# Altium integrated library Analog Devices RF IF Amplifiers.IntLib: 48 symbols (part 3 of 3)
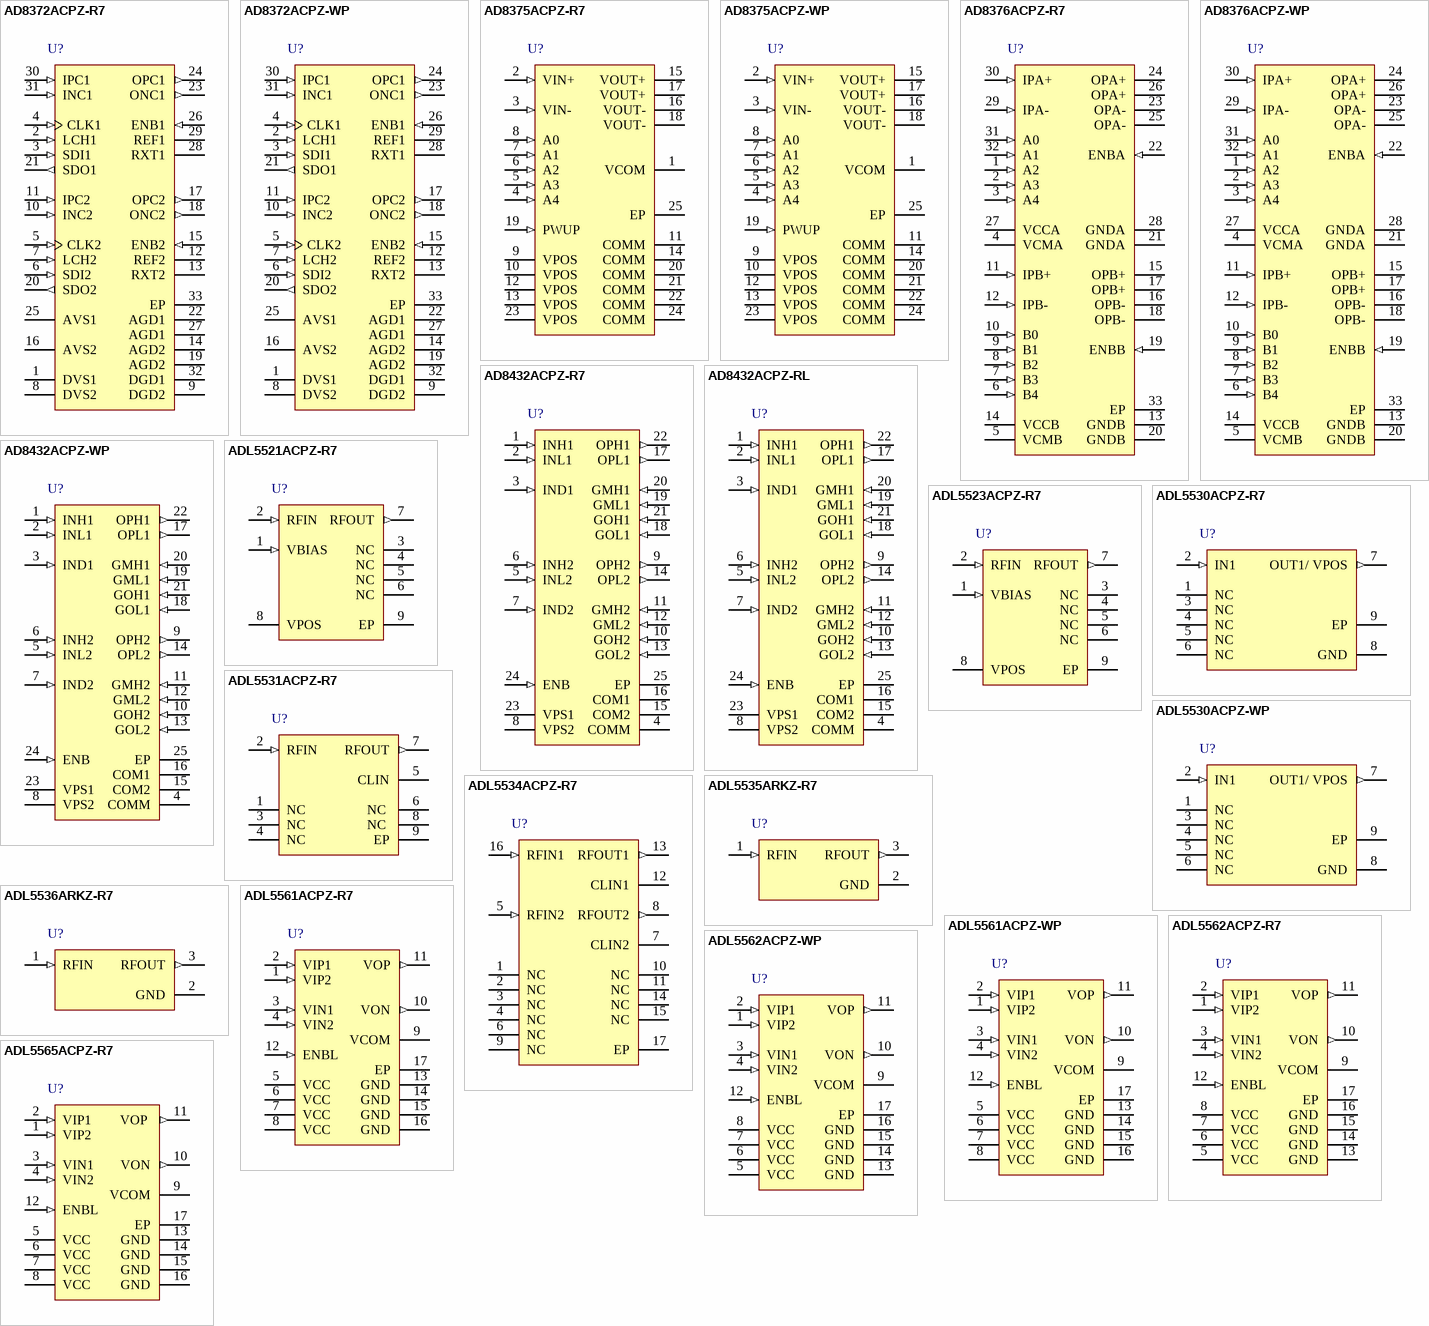
[diagram p3: symbols AD8372ACPZ-R7 to ADL5565ACPZ-R7]

## ADL5535ARKZ-R7
designator U?
20 MHz to 1.0 GHz IF Gain Block, 5.5V, RK-3, 1000 Reel, Pb-Free; Frequency Range: 20 to 1000; Gain: 16.1dB; 1 dB Comp Point: 18.9dBm; Output IP3: 45.5dBm; Noise Figure: 3.2dB; Min Pos Supply: 4.5V; Supply Current: 97mA; DatasheetVersion: Rev. 0; PackageVersion: 121808-B; PackageReference: RK-3; PackageDescription: 3-Lead Small Outline Transistor Package [SOT-89]; Max Pos Supply: 5.5V; Code_JEDEC: TO-243; ComponentLink1Description: Manufacturer URL; ComponentLink1URL: www.analog.com; ComponentLink2Description: Datasheet; ComponentLink2URL: http://www.analog.com/static/imported-files/data_sheets/ADL5535.pdf; ComponentLink3Description: Package Specification; ComponentLink3URL: http://www.analog.com/static/imported-files/packages/PKG_PDF/SOT-89(RK)/RK_3.pdf
footprint ADI-RK-3_N (SOT89, 3-Leads, Body 4.5x2.5 mm, Pitch 1.5mm, Lead Span 4.1mm, IPC Medium Density)
footprint ADI-RK-3_L (SOT89, 3-Leads, Body 4.5x2.5 mm, Pitch 1.5mm, Lead Span 4.1mm, IPC High Density)
footprint ADI-RK-3_M (SOT89, 3-Leads, Body 4.5x2.5 mm, Pitch 1.5mm, Lead Span 4.1mm, IPC Low Density)
pins: 1 RFIN (in) "RF Input. This pin requires a dc blocking capacitor.", 2 GND (power) "Ground. Connect this pin to a low impedance ground plane.", 3 RFOUT (out) "RF Output and Supply Voltage. A dc bias is provided to this pin through an inductor that is connected to the external power supply. The RF path requires a dc blocking capacitor."

## ADL5536ARKZ-R7
designator U?
20 MHz to 1.0 GHz IF Gain Block, 5.5V, RK-3, 1000 Reel, Pb-Free; Frequency Range: 20 to 1000; Gain: 19.4dB; 1 dB Comp Point: 19.7dBm; Output IP3: 49dBm; Noise Figure: 2.7dB; Min Pos Supply: 4.5V; Supply Current: 105mA; DatasheetVersion: Rev. 0; PackageVersion: 121808-B; PackageReference: RK-3; PackageDescription: 3-Lead Small Outline Transistor Package [SOT-89]; Max Pos Supply: 5.5V; Code_JEDEC: TO-243; ComponentLink1Description: Manufacturer URL; ComponentLink1URL: www.analog.com; ComponentLink2Description: Datasheet; ComponentLink2URL: http://www.analog.com/static/imported-files/data_sheets/ADL5536.pdf; ComponentLink3Description: Package Specification; ComponentLink3URL: http://www.analog.com/static/imported-files/packages/PKG_PDF/SOT-89(RK)/RK_3.pdf
footprint ADI-RK-3_N (SOT89, 3-Leads, Body 4.5x2.5 mm, Pitch 1.5mm, Lead Span 4.1mm, IPC Medium Density)
footprint ADI-RK-3_L (SOT89, 3-Leads, Body 4.5x2.5 mm, Pitch 1.5mm, Lead Span 4.1mm, IPC High Density)
footprint ADI-RK-3_M (SOT89, 3-Leads, Body 4.5x2.5 mm, Pitch 1.5mm, Lead Span 4.1mm, IPC Low Density)
pins: 1 RFIN (in) "RF Input. This pin requires a dc blocking capacitor.", 2 GND (power) "Ground. Connect this pin to a low impedance ground plane.", 3 RFOUT (out) "RF Output and Supply Voltage. A dc bias is provided to this pin through an inductor that is connected to the external power supply. The RF path requires a dc blocking capacitor."

## ADL5561ACPZ-R7
designator U?
2.9 GHz Ultralow Distortion RF/IF Differential Amplifier, 15.5dB, 40mA, CP-16-2, Pb-Free, 1500 Reel; -3 dB BW: 2.9GHz; Distortion (2nd): -96dBc; Distortion (3rd): -87dBc; Spectral Noise: 2.1(nV/rtHz); DatasheetVersion: Rev. C; PackageVersion: 2005; PackageReference: CP-16-2; PackageDescription: 16-Lead Lead Frame Chip Scale Package [LFCSP_VQ]; Gain: 15.5dB; Code_JEDEC: MO-220-VEED-2; ComponentLink1Description: Manufacturer URL; ComponentLink1URL: www.analog.com; ComponentLink2Description: Datasheet; ComponentLink2URL: http://www.analog.com/static/imported-files/data_sheets/ADL5561.pdf; ComponentLink3Description: Package Specification; ComponentLink3URL: http://www.analog.com/static/imported-files/packages/PKG_PDF/LFCSP(CP)/CP_16_2.pdf
footprint ADI-CP-16-2_N (QFN, 16-Leads, Body 3x3mm, Pitch 0.5mm, Thermal Pad 1.3x1.3mm, IPC Medium Density)
footprint ADI-CP-16-2_L (QFN, 16-Leads, Body 3x3mm, Pitch 0.5mm, Thermal Pad 1.3x1.3mm, IPC High Density)
footprint ADI-CP-16-2_M (QFN, 16-Leads, Body 3x3mm, Pitch 0.5mm, Thermal Pad 1.3x1.3mm, IPC Low Density)
pins: 1 VIP2 (in) "Balanced Differential Input. Biased to VCOM, typically ac-coupled. Input for AV = 12 dB gain, strapped to  VIP1 for Av = 15.5 dB.", 2 VIP1 (in) "Balanced Differential Input. Biased to VCOM, typically ac-coupled. Input for AV = 6 dB gain, strapped to  VIP2 for Av = 15.5 dB", 3 VIN1 (in) "Balanced Differential Input. Biased to VCOM, typically ac-coupled. Input for AV = 6 dB gain, strapped to  VIN2 for Av = 15.5 dB.", 4 VIN2 (in) "Balanced Differential Input. Biased to VCOM, typically ac-coupled. Input for AV = 12 dB gain, strapped to  VIN1 for Av = 15.5 dB.", 5 VCC (power) "Positive Supply.", 6 VCC (power) "Positive Supply.", 7 VCC (power) "Positive Supply.", 8 VCC (power) "Positive Supply.", 9 VCOM "Common-Mode Voltage. A voltage applied to this pin sets the common-mode voltage of the input and output. Typically decoupled to ground with a 0.1 uF capacitor. [see datasheet]", 10 VON (out) "Balanced Differential Output.Biased to VCOM, typically ac-coupled.", 11 VOP (out) "Balanced Differential Output.Biased to VCOM, typically ac-coupled.", 12 ENBL (in) "Enable. Apply positive voltage (1.0V< ENBL< VCC) to activate device.", 13 GND (power) "Ground.Connect tolowimpe dance ground.", 14 GND (power) "Ground.Connect tolowimpe dance ground.", 15 GND (power) "Ground.Connect tolowimpe dance ground.", 16 GND (power) "Ground.Connect tolowimpe dance ground.", 17 EP (power) "Exposed Paddle.Connect to a low impedance thermal and electrical ground plane."

## ADL5561ACPZ-WP
designator U?
2.9 GHz Ultralow Distortion RF/IF Differential Amplifier, 15.5dB, 40mA, CP-16-2, Pb-Free, 50 Tray; -3 dB BW: 2.9GHz; Distortion (2nd): -96dBc; Distortion (3rd): -87dBc; Spectral Noise: 2.1(nV/rtHz); DatasheetVersion: Rev. C; PackageVersion: 2005; PackageReference: CP-16-2; PackageDescription: 16-Lead Lead Frame Chip Scale Package [LFCSP_VQ]; Gain: 15.5dB; Code_JEDEC: MO-220-VEED-2; ComponentLink1Description: Manufacturer URL; ComponentLink1URL: www.analog.com; ComponentLink2Description: Datasheet; ComponentLink2URL: http://www.analog.com/static/imported-files/data_sheets/ADL5561.pdf; ComponentLink3Description: Package Specification; ComponentLink3URL: http://www.analog.com/static/imported-files/packages/PKG_PDF/LFCSP(CP)/CP_16_2.pdf
footprint ADI-CP-16-2_N (QFN, 16-Leads, Body 3x3mm, Pitch 0.5mm, Thermal Pad 1.3x1.3mm, IPC Medium Density)
footprint ADI-CP-16-2_L (QFN, 16-Leads, Body 3x3mm, Pitch 0.5mm, Thermal Pad 1.3x1.3mm, IPC High Density)
footprint ADI-CP-16-2_M (QFN, 16-Leads, Body 3x3mm, Pitch 0.5mm, Thermal Pad 1.3x1.3mm, IPC Low Density)
pins: 1 VIP2 (in) "Balanced Differential Input. Biased to VCOM, typically ac-coupled. Input for AV = 12 dB gain, strapped to  VIP1 for Av = 15.5 dB.", 2 VIP1 (in) "Balanced Differential Input. Biased to VCOM, typically ac-coupled. Input for AV = 6 dB gain, strapped to  VIP2 for Av = 15.5 dB", 3 VIN1 (in) "Balanced Differential Input. Biased to VCOM, typically ac-coupled. Input for AV = 6 dB gain, strapped to  VIN2 for Av = 15.5 dB.", 4 VIN2 (in) "Balanced Differential Input. Biased to VCOM, typically ac-coupled. Input for AV = 12 dB gain, strapped to  VIN1 for Av = 15.5 dB.", 5 VCC (power) "Positive Supply.", 6 VCC (power) "Positive Supply.", 7 VCC (power) "Positive Supply.", 8 VCC (power) "Positive Supply.", 9 VCOM "Common-Mode Voltage. A voltage applied to this pin sets the common-mode voltage of the input and output. Typically decoupled to ground with a 0.1 uF capacitor. [see datasheet]", 10 VON (out) "Balanced Differential Output.Biased to VCOM, typically ac-coupled.", 11 VOP (out) "Balanced Differential Output.Biased to VCOM, typically ac-coupled.", 12 ENBL (in) "Enable. Apply positive voltage (1.0V< ENBL< VCC) to activate device.", 13 GND (power) "Ground.Connect tolowimpe dance ground.", 14 GND (power) "Ground.Connect tolowimpe dance ground.", 15 GND (power) "Ground.Connect tolowimpe dance ground.", 16 GND (power) "Ground.Connect tolowimpe dance ground.", 17 EP (power) "Exposed Paddle.Connect to a low impedance thermal and electrical ground plane."

## ADL5562ACPZ-R7
designator U?
3.3 GHz Ultralow Distortion RF/IF Differential Amplifier, 3.3V, 80mA, CP-16-2, Pb-Free, 1500 Reel; -3 dB BW: 3.3GHz; Distortion (2nd): -104dBc; Distortion (3rd): -87dBc; Spectral Noise: 2.1(nV/rtHz); DatasheetVersion: Rev. C; PackageVersion: 2005; PackageReference: CP-16-2; PackageDescription: 16-Lead Lead Frame Chip Scale Package [LFCSP_VQ]; Supply Voltage (V): 3.3V; Code_JEDEC: MO-220-VEED-2; ComponentLink1Description: Manufacturer URL; ComponentLink1URL: www.analog.com; ComponentLink2Description: Datasheet; ComponentLink2URL: http://www.analog.com/static/imported-files/data_sheets/ADL5562.pdf; ComponentLink3Description: Package Specification; ComponentLink3URL: http://www.analog.com/static/imported-files/packages/PKG_PDF/LFCSP(CP)/CP_16_2.pdf
footprint ADI-CP-16-2_N (QFN, 16-Leads, Body 3x3mm, Pitch 0.5mm, Thermal Pad 1.3x1.3mm, IPC Medium Density)
footprint ADI-CP-16-2_L (QFN, 16-Leads, Body 3x3mm, Pitch 0.5mm, Thermal Pad 1.3x1.3mm, IPC High Density)
footprint ADI-CP-16-2_M (QFN, 16-Leads, Body 3x3mm, Pitch 0.5mm, Thermal Pad 1.3x1.3mm, IPC Low Density)
pins: 1 VIP2 (in) "Balanced Differential Input. Biased to VCOM, typically ac-coupled. Input for AV = 12 dB gain, strapped toVIP1 for AV = 15.5 dB.", 2 VIP1 (in) "Balanced Differential Input. Biased to VCOM, typically ac-coupled. Input for AV = 6 dB gain, strapped to VIP2 for AV = 15.5 dB.", 3 VIN1 (in) "Balanced Differential Input. Biased to VCOM, typically ac-coupled. Input for AV = 6 dB gain, strapped to VIN2 for AV = 15.5 dB.", 4 VIN2 (in) "Balanced Differential Input. Biased to VCOM, typically ac-coupled. Input for AV = 12 dB gain, strapped toVIN1 for AV = 15.5 dB.", 5 VCC (power) "Positive Supply.", 6 VCC (power) "Positive Supply.", 7 VCC (power) "Positive Supply.", 8 VCC (power) "Positive Supply.", 9 VCOM "Common-Mode Voltage. A voltage applied to this pin sets the common-mode voltage of the input and output. Typically decoupled to ground with a 0.1 uF capacitor. [see datasheet]", 10 VON (out) "Balanced Differential Output. Biased to VCOM, typically ac-couple", 11 VOP (out) "Balanced Differential Output. Biased to VCOM, typically ac-couple", 12 ENBL (in) "Enable. Apply positive voltage (1.0 V < ENBL < VCC) to activate device.", 13 GND (power) "Ground.Connect to low impedance ground.", 14 GND (power) "Ground.Connect to low impedance ground.", 15 GND (power) "Ground.Connect to low impedance ground.", 16 GND (power) "Ground.Connect to low impedance ground.", 17 EP (power) "Exposed Pad. Connect to a low impedance thermal and electrical ground plane."

## ADL5562ACPZ-WP
designator U?
3.3 GHz Ultralow Distortion RF/IF Differential Amplifier, 3.3V, 80mA, CP-16-2, Pb-Free, 50 Tray; -3 dB BW: 3.3GHz; Distortion (2nd): -104dBc; Distortion (3rd): -87dBc; Spectral Noise: 2.1(nV/rtHz); DatasheetVersion: Rev. C; PackageVersion: 2005; PackageReference: CP-16-2; PackageDescription: 16-Lead Lead Frame Chip Scale Package [LFCSP_VQ]; Supply Voltage (V): 3.3V; Code_JEDEC: MO-220-VEED-2; ComponentLink1Description: Manufacturer URL; ComponentLink1URL: www.analog.com; ComponentLink2Description: Datasheet; ComponentLink2URL: http://www.analog.com/static/imported-files/data_sheets/ADL5562.pdf; ComponentLink3Description: Package Specification; ComponentLink3URL: http://www.analog.com/static/imported-files/packages/PKG_PDF/LFCSP(CP)/CP_16_2.pdf
footprint ADI-CP-16-2_N (QFN, 16-Leads, Body 3x3mm, Pitch 0.5mm, Thermal Pad 1.3x1.3mm, IPC Medium Density)
footprint ADI-CP-16-2_L (QFN, 16-Leads, Body 3x3mm, Pitch 0.5mm, Thermal Pad 1.3x1.3mm, IPC High Density)
footprint ADI-CP-16-2_M (QFN, 16-Leads, Body 3x3mm, Pitch 0.5mm, Thermal Pad 1.3x1.3mm, IPC Low Density)
pins: 1 VIP2 (in) "Balanced Differential Input. Biased to VCOM, typically ac-coupled. Input for AV = 12 dB gain, strapped toVIP1 for AV = 15.5 dB.", 2 VIP1 (in) "Balanced Differential Input. Biased to VCOM, typically ac-coupled. Input for AV = 6 dB gain, strapped to VIP2 for AV = 15.5 dB.", 3 VIN1 (in) "Balanced Differential Input. Biased to VCOM, typically ac-coupled. Input for AV = 6 dB gain, strapped to VIN2 for AV = 15.5 dB.", 4 VIN2 (in) "Balanced Differential Input. Biased to VCOM, typically ac-coupled. Input for AV = 12 dB gain, strapped toVIN1 for AV = 15.5 dB.", 5 VCC (power) "Positive Supply.", 6 VCC (power) "Positive Supply.", 7 VCC (power) "Positive Supply.", 8 VCC (power) "Positive Supply.", 9 VCOM "Common-Mode Voltage. A voltage applied to this pin sets the common-mode voltage of the input and output. Typically decoupled to ground with a 0.1 uF capacitor. [see datasheet]", 10 VON (out) "Balanced Differential Output. Biased to VCOM, typically ac-couple", 11 VOP (out) "Balanced Differential Output. Biased to VCOM, typically ac-couple", 12 ENBL (in) "Enable. Apply positive voltage (1.0 V < ENBL < VCC) to activate device.", 13 GND (power) "Ground.Connect to low impedance ground.", 14 GND (power) "Ground.Connect to low impedance ground.", 15 GND (power) "Ground.Connect to low impedance ground.", 16 GND (power) "Ground.Connect to low impedance ground.", 17 EP (power) "Exposed Pad. Connect to a low impedance thermal and electrical ground plane."

## ADL5565ACPZ-R7
designator U?
6 GHz Ultrahigh Dynamic Range Differential Amplifier, 15.5dB, 5V, 80mA, CP-16-27, Pb-Free, 1500 Reel; -3 dB BW: 6GHz; Distortion (2nd): -108dBc; Distortion (3rd): -109dBc; Output IP3: 53dBm; Noise Figure: 8.7dB; Spectral Noise: 1.6(nV/rtHz); DatasheetVersion: Rev. 0; PackageVersion: 091609-A; PackageReference: CP-16-27; PackageDescription: 16-Lead Lead Frame Chip Scale Package [LFCSP_WQ]; Gain: 15.5dB; Supply Voltage (V): 5V; Code_JEDEC: MO-229; ComponentLink1Description: Manufacturer URL; ComponentLink1URL: www.analog.com; ComponentLink2Description: Datasheet; ComponentLink2URL: http://www.analog.com/static/imported-files/data_sheets/ADL5565.pdf; ComponentLink3Description: Package Specification; ComponentLink3URL: http://www.analog.com/static/imported-files/packages/PKG_PDF/LFCSP(CP)/CP_16_27.pdf
footprint ADI-CP-16-27_N (QFN, 16-Leads, Body 3x3mm, Pitch 0.5mm, Thermal Pad 1.6x1.6mm, IPC Medium Density)
footprint ADI-CP-16-27_L (QFN, 16-Leads, Body 3x3mm, Pitch 0.5mm, Thermal Pad 1.6x1.6mm, IPC High Density)
footprint ADI-CP-16-27_M (QFN, 16-Leads, Body 3x3mm, Pitch 0.5mm, Thermal Pad 1.6x1.6mm, IPC Low Density)
pins: 1 VIP2 (in) "Balanced Differential Input. Biased to VCOM, typically ac-coupled. Input for AV = 12 dB gain, strapped to VIP1 for AV = 15.5 dB.", 2 VIP1 (in) "Balanced Differential Input. Biased to VCOM, typically ac-coupled. Input for AV = 6 dB gain, strapped to VIP2 for AV = 15.5 dB.", 3 VIN1 (in) "Balanced Differential Input. Biased to VCOM, typically ac-coupled. Input for AV = 6 dB gain, strapped to VIN2 for AV = 15.5 dB.", 4 VIN2 (in) "Balanced Differential Input. Biased to VCOM, typically ac-coupled. Input for AV = 12 dB gain, strapped to VIN1 for AV = 15.5 dB", 5 VCC (power) "Positive Supply", 6 VCC (power) "Positive Supply", 7 VCC (power) "Positive Supply", 8 VCC (power) "Positive Supply", 9 VCOM "Common-Mode Voltage. A voltage applied to this pin sets the common-mode voltage of the input and output. Typically decoupled to ground with a 0.1 uF capacitor. With no reference applied, input and output common mode floats to midsupply (VCC/2).", 10 VON (out) "Balanced Differential Output. Biased to VCOM, typically ac-coupled.", 11 VOP  (out) "Balanced Differential Output. Biased to VCOM, typically ac-coupled", 12 ENBL  (in) "Enable. Apply positive voltage (1.3 V < ENBL < VCC) to activate device.", 13 GND (power) "Ground.", 14 GND (power) "Ground.", 15 GND (power) "Ground.", 16 GND (power) "Ground.", 17 EP (power) "Exposed paddle is internally connected to GND and must be soldered to a low impedance ground plane."